# Altium footprint library LFCSP.PcbLib: 1 footprints
Each footprint in its own frame and in the unit in brackets; x right, y up, seen from the top. Pads: shape width x height; smd on the part's side, far side on the other; paste and mask are expansions set on the pad; w line width, h text height; cw(c..) or ccw(c..) is an arc to the next point about the centre after c.
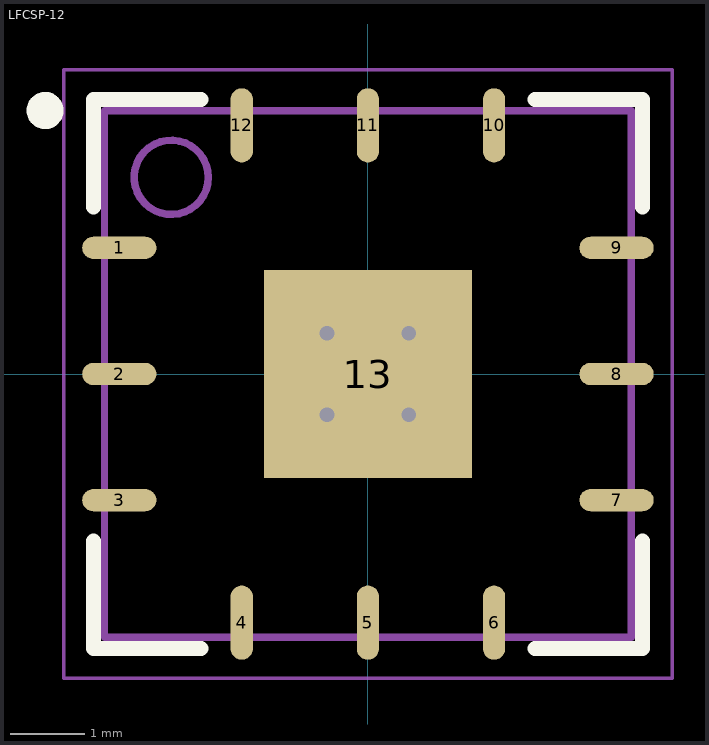
[diagram p0: the footprint, top view; thin cyan lines are the x and y axes]

## LFCSP-12 [mm]
height 0.8
pads (13):
  oval 1x0.3 smd: 1(-3.35,1.7) 2(-3.35,0) 3(-3.35,-1.7) 7(3.35,-1.7) 8(3.35,0) 9(3.35,1.7)
  oval 0.3x1 smd: 4(-1.7,-3.35) 5(0,-3.35) 6(1.7,-3.35) 10(1.7,3.35) 11(0,3.35) 12(-1.7,3.35)
  rect 2.8x2.8 all layers, no hole: 13(0,0)
via 0.55,-0.55 diameter 0.5 hole 0.2
via -0.55,-0.55 diameter 0.5 hole 0.2
via 0.55,0.55 diameter 0.5 hole 0.2
via -0.55,0.55 diameter 0.5 hole 0.2
Top Overlay:
  circle w0.25: c-4.35,3.55 r0.125
  lines w0.2: -3.7,-2.25 -3.7,-3.7 -2.25,-3.7 ; -3.7,2.25 -3.7,3.7 -2.25,3.7 ; 2.25,-3.7 3.7,-3.7 3.7,-2.25 ; 2.25,3.7 3.7,3.7 3.7,2.25
Assembly:
  circle w0.1: c-2.65,2.65 r0.5
  lines w0.1: -3.55,-3.55 3.55,-3.55 3.55,3.55 -3.55,3.55 -3.55,-3.55
Mechanical 15:
  lines w0.05: -4.1,-4.1 4.1,-4.1 4.1,4.1 -4.1,4.1 -4.1,-4.1
  lines w0.1: -0.5,0 0.5,0 ; 0,-0.5 0,0.5
3D body "LFCSP-12.step": height 0.8, standoff 0, extent -3.57,-3.57 3.57,3.57